# EAGLE library part TLP250F (library iteclab)
Toshiba Transistor Inverter Inverter For Air Conditionor IGBT Gate Drive Power MOS FET Gate Drive
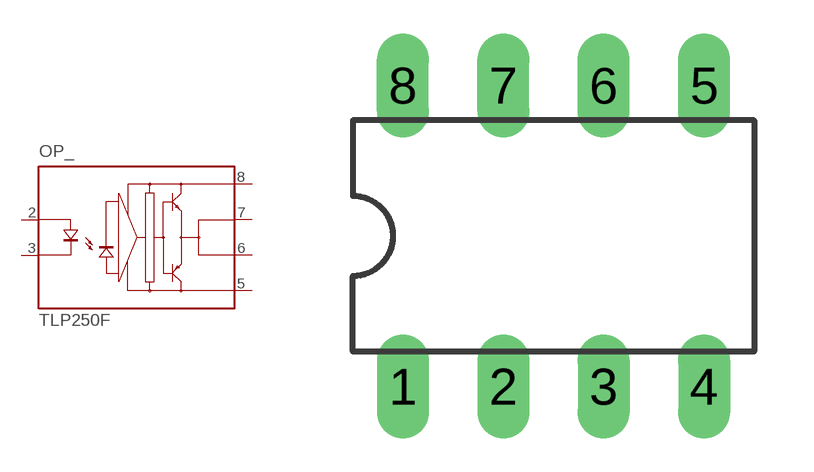
[diagram p4: symbol with the pads of DIL08; footprint DIL08]

Designator prefix OP_

## TLP250F  [DIL08]
2  A
3  K
5  GND
6  VO
7  VO'
8  VCC

## Footprint DIL08 (pad centres in mm)
Dual In Line Package
drill 0.813 long: 1 -3.81,-3.81; 2 -1.27,-3.81; 3 1.27,-3.81; 4 3.81,-3.81; 5 3.81,3.81; 6 1.27,3.81; 7 -1.27,3.81; 8 -3.81,3.81